# Altium schematic symbol library BFP196W.SchLib: 1 symbol
Pins are listed as number, name and electrical type; pins without a type are passive.

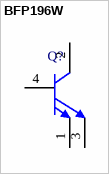
[diagram p0: symbol BFP196W]

## BFP196W
designator Q?
NPN Silicon RF Transistor, 12 V VCEO, 150 mA IC, 19 dB Gmax, SOT343, Green; Manufacturer: Infineon; PartNumber: BFP196W; Gmax (typ): 19 dB; Green: yes; Group: For low frequencies, e.g. VHF/UHF; IC (max): 150 mA; NFmin (typ): 1.3 dB; Ptot (max): 700 mW; VCEO (max): 12 V; DatasheetVersion: Apr-2007; PackageReference: SOT343; PackageDescription: 4-Pin Small Outline Transistor Package, 1.25 x 2 mm Body; Supplier 1: Mouser; Supplier Part Number 1: N/A; Halogen-free: yes; Mounting Technology: Surface Mount; ComponentLink1Description: Manufacturer URL; ComponentLink1URL: http://www.infineon.com/; ComponentLink2Description: Datasheet; ComponentLink2URL: http://www.infineon.com/dgdl/bfp196w.pdf?folderId=db3a30431400ef68011425b1354605c1&fileId=db3a30431400ef680114267ecec60628&location=en.Products.RF.RF_Transistors_.High_Linearity_Si-_and_SiGe_C-Transistors_for_use_up_to_6_GHz.DATASHEET.bfp196w.pdf; ComponentLink3Description: Package Specification; ComponentLink3URL: http://www.infineon.com/dgdl/SOT343-Package_Overview.pdf?folderId=db3a30431936bc4b0119535155343cba&fileId=db3a30431936bc4b0119535a9f393cd3
footprint INF-SOT343_V (SOT343, 4-Leads, Body 2x1.25 mm)
pins: 1 E, 2 C, 3 E, 4 B